# EAGLE library part DRV8320R (library VESC_SHIT)
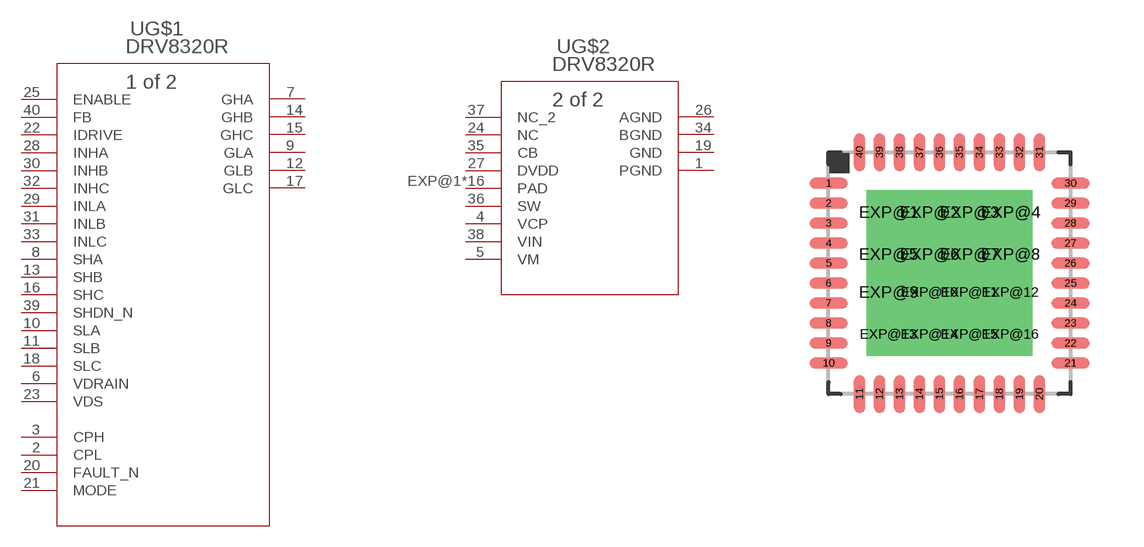
[diagram p4: symbol with the pads of QFN40-6X6; footprint QFN40-6X6]

Designator prefix -; gates G$1=DRV8320RHRHAT G$2=DRV8320RHRHAT_A

## DRV8320R  [QFN40-6X6]
1  G$2:PGND  pas
2  G$1:CPL  pas
3  G$1:CPH  pas
4  G$2:VCP  pas
5  G$2:VM  pas
6  G$1:VDRAIN  pas
7  G$1:GHA  pas
8  G$1:SHA  pas
9  G$1:GLA  pas
10  G$1:SLA  pas
11  G$1:SLB  pas
12  G$1:GLB  pas
13  G$1:SHB  pas
14  G$1:GHB  pas
15  G$1:GHC  pas
16  G$1:SHC  pas
17  G$1:GLC  pas
18  G$1:SLC  pas
19  G$2:GND  pas
20  G$1:FAULT_N  pas
21  G$1:MODE  pas
22  G$1:IDRIVE  pas
23  G$1:VDS  pas
24  G$2:NC  pas
25  G$1:ENABLE  pas
26  G$2:AGND  pas
27  G$2:DVDD  pas
28  G$1:INHA  pas
29  G$1:INLA  pas
30  G$1:INHB  pas
31  G$1:INLB  pas
32  G$1:INHC  pas
33  G$1:INLC  pas
34  G$2:BGND  pas
35  G$2:CB  pas
36  G$2:SW  pas
37  G$2:NC_2  pas
38  G$2:VIN  pas
39  G$1:SHDN_N  pas
40  G$1:FB  pas
EXP@1  G$2:PAD  pas
EXP@2  G$2:PAD  pas
EXP@3  G$2:PAD  pas
EXP@4  G$2:PAD  pas
EXP@5  G$2:PAD  pas
EXP@6  G$2:PAD  pas
EXP@7  G$2:PAD  pas
EXP@8  G$2:PAD  pas
EXP@9  G$2:PAD  pas
EXP@10  G$2:PAD  pas
EXP@11  G$2:PAD  pas
EXP@12  G$2:PAD  pas
EXP@13  G$2:PAD  pas
EXP@14  G$2:PAD  pas
EXP@15  G$2:PAD  pas
EXP@16  G$2:PAD  pas

## Footprint QFN40-6X6 (pad centres in mm)
RHA (S-PQFP-N40) 6 x 6 mm Source: http://focus.ti.com/lit/ds/symlink/tps65020.pdf
smd 0.95 x 0.28: 1 -3.025,2.25; 2 -3.025,1.75; 3 -3.025,1.25; 4 -3.025,0.75; 5 -3.025,0.25; 6 -3.025,-0.25; 7 -3.025,-0.75; 8 -3.025,-1.25; 9 -3.025,-1.75; 10 -3.025,-2.25; 21 3.025,-2.25; 22 3.025,-1.75; 23 3.025,-1.25; 24 3.025,-0.75; 25 3.025,-0.25; 26 3.025,0.25; 27 3.025,0.75; 28 3.025,1.25; 29 3.025,1.75; 30 3.025,2.25
smd 0.28 x 0.95: 11 -2.25,-3.025; 12 -1.75,-3.025; 13 -1.25,-3.025; 14 -0.75,-3.025; 15 -0.25,-3.025; 16 0.25,-3.025; 17 0.75,-3.025; 18 1.25,-3.025; 19 1.75,-3.025; 20 2.25,-3.025; 31 2.25,3.025; 32 1.75,3.025; 33 1.25,3.025; 34 0.75,3.025; 35 0.25,3.025; 36 -0.25,3.025; 37 -0.75,3.025; 38 -1.25,3.025; 39 -1.75,3.025; 40 -2.25,3.025
drill 0.3 pad 1.1 square: EXP@1 -1.525,1.525; EXP@2 -0.5,1.525; EXP@3 0.5,1.525; EXP@4 1.525,1.525; EXP@5 -1.525,0.475; EXP@6 -0.5,0.475; EXP@7 0.5,0.475; EXP@8 1.525,0.475; EXP@9 -1.525,-0.475; EXP@10 -0.5,-0.475; EXP@11 0.5,-0.475; EXP@12 1.525,-0.475; EXP@13 -1.525,-1.525; EXP@14 -0.5,-1.525; EXP@15 0.5,-1.525; EXP@16 1.525,-1.525